# Altium schematic symbol library asib.SchLib: 5 symbols
Pins are listed as number, name and electrical type; pins without a type are passive.

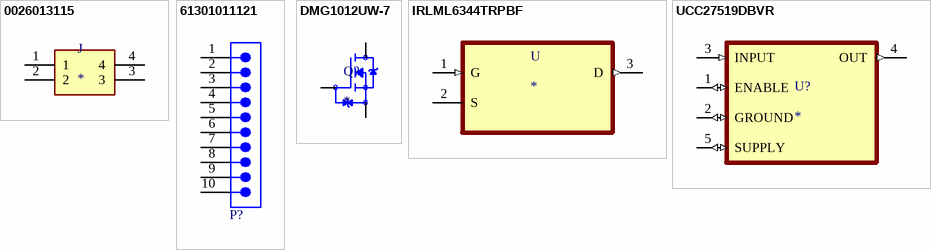
[diagram p0: symbols 0026013115 to UCC27519DBVR]

## 0026013115
designator J
Connector Header Through Hole, Right Angle 4 position 0.165 (4.20mm); MP: 0026013115; MF: Molex; Package: None; DigiKey-Purchase-URL: https://snapeda.com/shop?store=DigiKey&id=2597941; Value: *; SnapEDA_Link: https://www.snapeda.com/parts/0026013115/Molex/view-part/2597941/?ref=snap; Price: None; Availability: Unavailable
footprint MOLEX_0026013115
pins: 1, 2, 3, 4

## 61301011121
designator P?  (value not drawn)
WR-PHD Pin Header, THT, Vertical, pitch 2.54mm, 1 Row, 10P; Manufacturer: Wurth Elektronik; Contact Resistance: 20mOhm; Rated Current: 3A; Working Voltage: 250V; Withstanding Voltage: 500V; Manufacturer Part Number: 61301011121; Category: Board-to-Board Connectors; Match Code: WR-PHD; ComponentLink1Description: Website Link; ComponentLink1URL: https://www.we-online.com/redexpert/article/61301011121?ad; ComponentLink2Description: Datasheet Link; ComponentLink2URL: https://www.we-online.com/redexpert/spec/61301011121?ad; Mount: Through Hole; Operating Temperature Max: 105°C; Operating Temperature Min: -40°C; Packaging: Bag; Gender: Pin Header; Number of Pins: 10; Number of Rows: 1; Orientation: Vertical; Pitch: 2.54mm
footprint 61301011121 (Pin Header, pitch 2.54 mm, THT, Vertical, single row, 10p)
pins: 1, 2, 3, 4, 5, 6, 7, 8, 9, 10

## DMG1012UW-7
designator Q?
MOSFET N-Channel 20V 1A SOT323 | Diodes Inc DMG1012UW-7; MF: Diodes Inc.; SnapEDA_Link: https://www.snapeda.com/parts/DMG1012UW-7/Diodes+Inc./view-part/?ref=snap; Package: SOT-323 Diodes Inc.; Value: *; MP: DMG1012UW-7; Check_prices: https://www.snapeda.com/parts/DMG1012UW-7/Diodes+Inc./view-part/?ref=eda
footprint SOT65P222X110-3N
pins: 1 G, 2 S, 3 D

## IRLML6344TRPBF
designator U
N-Channel 30V 5A _Ta_ 1.3W _Ta_ Surface Mount Micro3â„¢/SOT-23; MF: Infineon Technologies; MP: IRLML6344TRPBF; Package: SOT-23 Infineon; Value: *; Price: None; Availability: Unavailable; SnapEDA_Link: https://www.snapeda.com/parts/IRLML6344TRPBF/Infineon%20Technologies/view-part/1786730/?ref=snap
footprint SOT95P240X112-3N
pins: 1 G (in), 2 S, 3 D (out)

## UCC27519DBVR
designator U?
MP: UCC27519DBVR; Package: None; Price: None; Value: *; Availability: Unavailable
footprint SOT95P280X145-5N
pins: 1 ENABLE (io), 2 GROUND (io), 3 INPUT (in), 4 OUT (out), 5 SUPPLY (io)